# Altium schematic symbol library WS-TASL.SchLib: 5 symbols
Pins are listed as number, name and electrical type; pins without a type are passive.

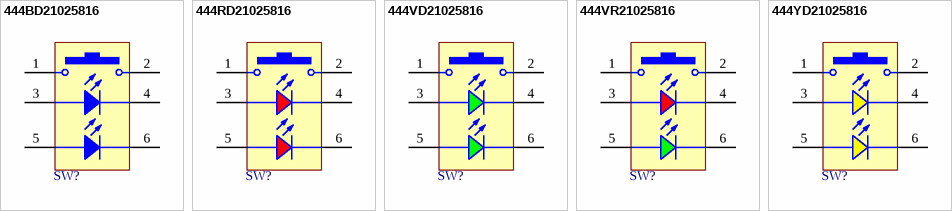
[diagram p0: symbols 444BD21025816 to 444YD21025816]

## 444BD21025816
designator SW?  (value not drawn)
WS-TASL Illuminated SMT Tact Switch, Blue & Blue, 12VDC, 50mA, 160g; Manufacturer: Wurth Elektronik; ComponentLink1Description: Website Link; ComponentLink1URL: https://www.we-online.com/redexpert/article/444BD21025816?ad; ComponentLink2Description: Datasheet Link; ComponentLink2URL: https://www.we-online.com/redexpert/spec/444BD21025816?ad; Manufacturer Part Number: 444BD21025816; Category: Illuminated Switches; Match Code: WS-TASL; Mount: Surface Mount; Operating Temperature Max: 85°C; Operating Temperature Min: -40°C; Packaging: Reel in ESD Bag; Length: 6.8mm; Width: 4.5mm; Height: 2.5mm; Contact Material: Stainless Steel; Contact Plating: Silver; Operation Force: 160g; Emitting Color: Blue & Blue; Rated Current: 50mA; Rated Voltage: 12VDC; Terminal Material: Brass; Terminal Plating: Silver
footprint 444xx21025816
pins: 1, 2, 3, 4, 5, 6

## 444RD21025816
designator SW?  (value not drawn)
WS-TASL Illuminated SMT Tact Switch, Red & Red, 12VDC, 50mA, 160g; Manufacturer: Wurth Elektronik; ComponentLink1Description: Website Link; ComponentLink1URL: https://www.we-online.com/redexpert/article/444RD21025816?ad; ComponentLink2Description: Datasheet Link; ComponentLink2URL: https://www.we-online.com/redexpert/spec/444RD21025816?ad; Manufacturer Part Number: 444RD21025816; Category: Illuminated Switches; Match Code: WS-TASL; Mount: Surface Mount; Operating Temperature Max: 85°C; Operating Temperature Min: -40°C; Packaging: Reel in ESD Bag; Length: 6.8mm; Width: 4.5mm; Height: 2.5mm; Contact Material: Stainless Steel; Contact Plating: Silver; Operation Force: 160g; Emitting Color: Red & Red; Rated Current: 50mA; Rated Voltage: 12VDC; Terminal Material: Brass; Terminal Plating: Silver
footprint 444xx21025816
pins: 1, 2, 3, 4, 5, 6

## 444VD21025816
designator SW?  (value not drawn)
WS-TASL Illuminated SMT Tact Switch, Bright Green & Bright Green, 12VDC, 50mA, 160g; Manufacturer: Wurth Elektronik; ComponentLink1Description: Website Link; ComponentLink1URL: https://www.we-online.com/redexpert/article/444VD21025816?ad; ComponentLink2Description: Datasheet Link; ComponentLink2URL: https://www.we-online.com/redexpert/spec/444VD21025816?ad; Manufacturer Part Number: 444VD21025816; Category: Illuminated Switches; Match Code: WS-TASL; Mount: Surface Mount; Operating Temperature Max: 85°C; Operating Temperature Min: -40°C; Packaging: Reel in ESD Bag; Length: 6.8mm; Width: 4.5mm; Height: 2.5mm; Contact Material: Stainless Steel; Contact Plating: Silver; Operation Force: 160g; Emitting Color: Bright Green & Bright Green; Rated Current: 50mA; Rated Voltage: 12VDC; Terminal Material: Brass; Terminal Plating: Silver
footprint 444xx21025816
pins: 1, 2, 3, 4, 5, 6

## 444VR21025816
designator SW?  (value not drawn)
WS-TASL Illuminated SMT Tact Switch, Bright Green & Red, 12VDC, 50mA, 160g; Manufacturer: Wurth Elektronik; ComponentLink1Description: Website Link; ComponentLink1URL: https://www.we-online.com/redexpert/article/444VR21025816?ad; ComponentLink2Description: Datasheet Link; ComponentLink2URL: https://www.we-online.com/redexpert/spec/444VR21025816?ad; Manufacturer Part Number: 444VR21025816; Category: Illuminated Switches; Match Code: WS-TASL; Mount: Surface Mount; Operating Temperature Max: 85°C; Operating Temperature Min: -40°C; Packaging: Reel in ESD Bag; Length: 6.8mm; Width: 4.5mm; Height: 2.5mm; Contact Material: Stainless Steel; Contact Plating: Silver; Operation Force: 160g; Emitting Color: Bright Green & Red; Rated Current: 50mA; Rated Voltage: 12VDC; Terminal Material: Brass; Terminal Plating: Silver
footprint 444xx21025816
pins: 1, 2, 3, 4, 5, 6

## 444YD21025816
designator SW?  (value not drawn)
WS-TASL Illuminated SMT Tact Switch, Yellow & Yellow, 12VDC, 50mA, 160g; Manufacturer: Wurth Elektronik; ComponentLink1Description: Website Link; ComponentLink1URL: https://www.we-online.com/redexpert/article/444YD21025816?ad; ComponentLink2Description: Datasheet Link; ComponentLink2URL: https://www.we-online.com/redexpert/spec/444YD21025816?ad; Manufacturer Part Number: 444YD21025816; Category: Illuminated Switches; Match Code: WS-TASL; Mount: Surface Mount; Operating Temperature Max: 85°C; Operating Temperature Min: -40°C; Packaging: Reel in ESD Bag; Length: 6.8mm; Width: 4.5mm; Height: 2.5mm; Contact Material: Stainless Steel; Contact Plating: Silver; Operation Force: 160g; Emitting Color: Yellow & Yellow; Rated Current: 50mA; Rated Voltage: 12VDC; Terminal Material: Brass; Terminal Plating: Silver
footprint 444xx21025816
pins: 1, 2, 3, 4, 5, 6